# Altium footprint library crystal_3215.PcbLib: 1 footprints
Each footprint in its own frame and in the unit in brackets; x right, y up, seen from the top. Pads: shape width x height; smd on the part's side, far side on the other; paste and mask are expansions set on the pad; w line width, h text height; cw(c..) or ccw(c..) is an arc to the next point about the centre after c.
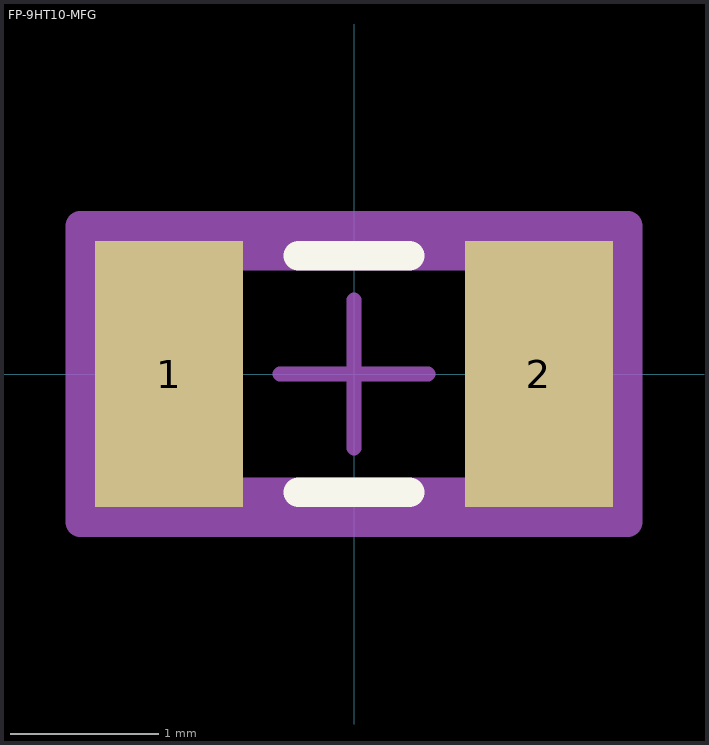
[diagram p0: the footprint, top view; thin cyan lines are the x and y axes]

## FP-9HT10-MFG [mm]
pads (2):
  rect 1x1.8 smd paste+0 mask+0: 1(-1.25,0) 2(1.25,0)
Top Overlay:
  lines w0.2: -0.375,-0.8 0.375,-0.8 ; -0.375,0.8 0.375,0.8
Mechanical 5:
  lines w0.2: -1.85,-1 1.85,-1 1.85,1 -1.85,1 -1.85,-1
  text ".Designator" at 0,0.188 h1
Mechanical 13:
  lines w0.2: -1.65,-0.8 1.65,-0.8 1.65,0.8 -1.65,0.8 -1.65,-0.8
Mechanical 15:
  lines w0.2: -1.85,-1 1.85,-1 1.85,1 -1.85,1 -1.85,-1
Mechanical 16:
  lines w0.1: -0.5,0 0.5,0 ; 0,-0.5 0,0.5
3D body "Crys_TXC_9HT10-32_768KBZY-T_eec.STEP": height 0.25, standoff 0, extent -1.85,-1 1.85,1